# EAGLE library part HX711 (library HX711)
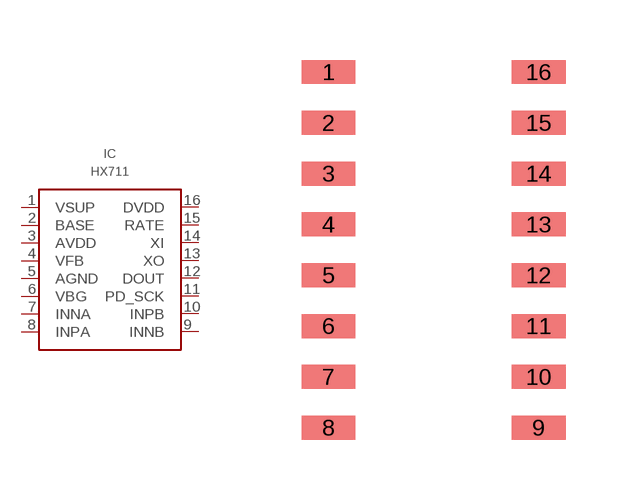
[diagram p0: symbol with the pads of HX711; footprint HX711]

Designator prefix IC

## HX711  [HX711]
1  VSUP
2  BASE
3  AVDD
4  VFB
5  AGND
6  VBG
7  INNA
8  INPA
9  INNB
10  INPB
11  PD_SCK
12  DOUT
13  XO
14  XI
15  RATE
16  DVDD

## Footprint HX711 (pad centres in mm)
smd 1.35 x 0.6: 1 -2.625,4.445; 2 -2.625,3.175; 3 -2.625,1.905; 4 -2.625,0.635; 5 -2.625,-0.635; 6 -2.625,-1.905; 7 -2.625,-3.175; 8 -2.625,-4.445; 9 2.625,-4.445; 10 2.625,-3.175; 11 2.625,-1.905; 12 2.625,-0.635; 13 2.625,0.635; 14 2.625,1.905; 15 2.625,3.175; 16 2.625,4.445